# Altium schematic symbol library Ohmite.SchLib: 1 symbol
Pins are listed as number, name and electrical type; pins without a type are passive.

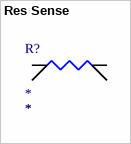
[diagram p0: symbol Res Sense]

## Res Sense
designator R?  (value not drawn)
Power - Rated: *; Value: *; Tolerance: *
pins: 1 I1, 2 I2, 3 S2, 4 S1